# Altium footprint library 51 MCU Development board.PcbLib: 9 footprints
Each footprint in its own frame and in the unit in brackets; x right, y up, seen from the top. Pads: shape width x height; smd on the part's side, far side on the other; paste and mask are expansions set on the pad; w line width, h text height; cw(c..) or ccw(c..) is an arc to the next point about the centre after c.
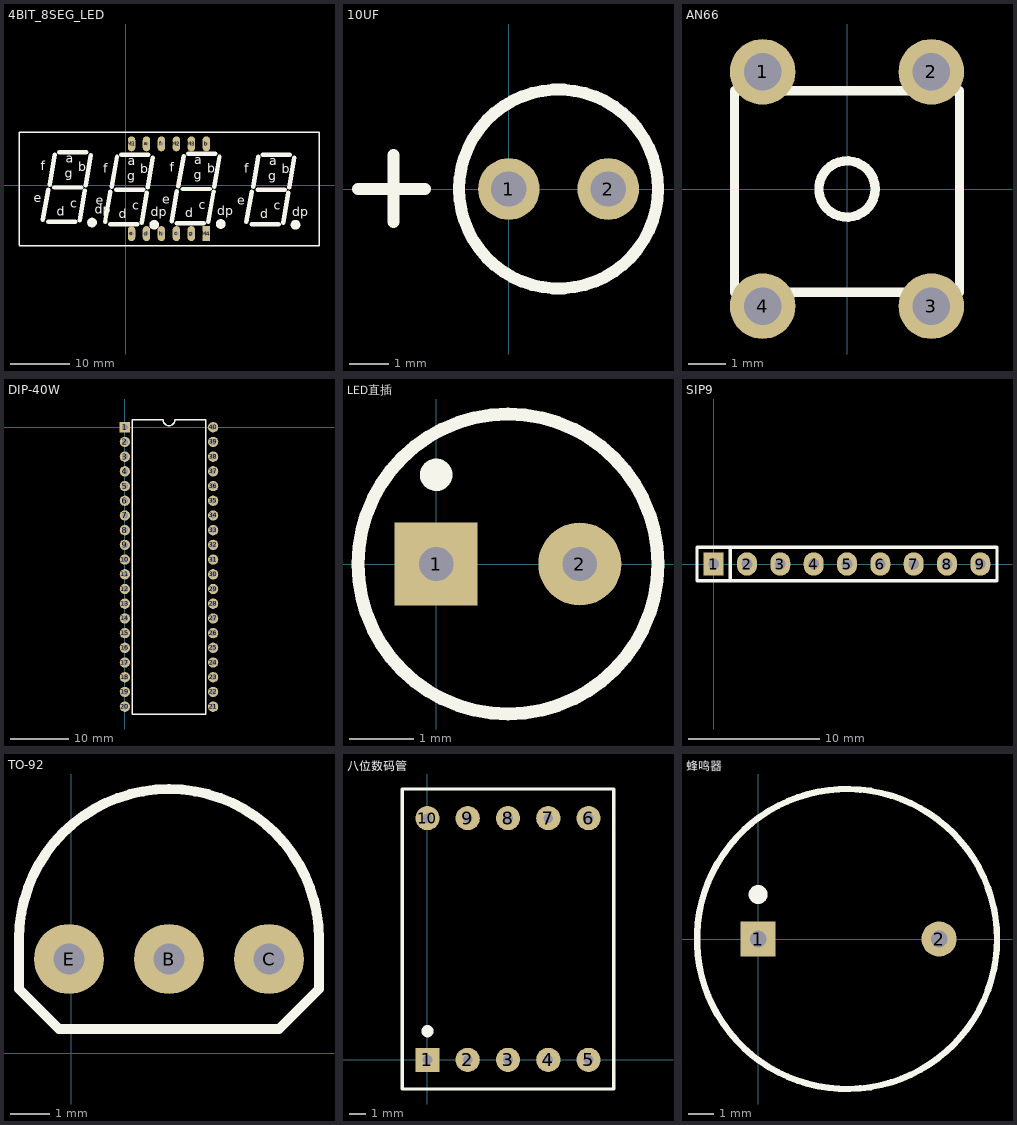
[diagram p0: the footprints below, top view; thin cyan lines are the x and y axes]

## 4BIT_8SEG_LED [mil]
pads (12):
  oval 50x100 hole 25: a(137,277) b(537,277) c(337,-323) d(137,-323) e(37,-323) f(237,277) g(437,-323) h(237,-323) M1(37,277) M2(337,277) M3(437,277)
  rect 50x100 hole 25: M4(537,-323)
Top Overlay:
  circle w40: c188,-264 r12
  circle w40: c-227,-249 r12
  circle w40: c633,-259 r12
  circle w40: c1133,-264 r12
  lines w10: -715,-405 1290,-405 ; -715,-401 -715,355 1290,355 1290,-404
  lines w30: -555,-230 -520,-30 ; -520,-245 -340,-245 ; -510,5 -475,205 ; -480,-15 -300,-15 ; -445,220 -265,220 ; -310,-235 -275,-35 ; -270,0 -235,200 ; -140,-245 -105,-45 ; -105,-260 75,-260 ; -95,-10 -60,190 ; -65,-30 115,-30 ; -30,205 150,205 ; 105,-250 140,-50 ; 145,-15 180,185 ; 305,-240 340,-40 ; 340,-255 520,-255 ; 350,-5 385,195 ; 380,-25 560,-25 ; 415,210 595,210 ; 550,-245 585,-45 ; 590,-10 625,190 ; 805,-245 840,-45 ; 840,-260 1020,-260 ; 850,-10 885,190 ; 880,-30 1060,-30 ; 915,205 1095,205 ; 1050,-250 1085,-50 ; 1090,-15 1125,185
  text "c" at 42,-165 h60
  text "dp" at 166,-207 h60
  text "e" at -203,-130 h60
  text "d" at -48,-220 h60
  text "a" at 12,135 h60
  text "g" at 7,35 h60
  text "b" at 97,80 h60
  text "f" at -153,85 h60
  text "c" at -373,-150 h60
  text "dp" at -209,-192 h60
  text "e" at -618,-115 h60
  text "d" at -463,-205 h60
  text "a" at -403,150 h60
  text "g" at -408,50 h60
  text "b" at -318,95 h60
  text "f" at -568,100 h60
  text "c" at 487,-160 h60
  text "dp" at 611,-202 h60
  text "e" at 242,-125 h60
  text "d" at 397,-215 h60
  text "a" at 457,140 h60
  text "g" at 452,40 h60
  text "b" at 542,85 h60
  text "f" at 292,90 h60
  text "c" at 987,-165 h60
  text "dp" at 1111,-207 h60
  text "e" at 742,-130 h60
  text "d" at 897,-220 h60
  text "a" at 957,135 h60
  text "g" at 952,35 h60
  text "b" at 1042,80 h60
  text "f" at 792,85 h60

## 10UF [mil]
pads (2):
  round 62 hole 35.43: 1(0,0) 2(100,0)
Top Overlay:
  circle w12: c50,0 r100
  lines w12: -151.69,0 -84.17,0 ; -115.87,-33.27 -115.87,34.25

## AN66 [mil]
pads (4):
  round 70 hole 40: 1(-90,125) 2(90,125) 3(90,-125) 4(-90,-125)
Top Overlay:
  circle w10: c0,0 r30
  lines w10: -120,-110 120,-110 120,105 -120,105 -120,-110

## DIP-40W [mil]
pads (40):
  rect 70x70 hole 40: 1(0,0)
  round 70 hole 40: 2(0,-100) 3(0,-200) 4(0,-300) 5(0,-400) 6(0,-500) 7(0,-600) 8(0,-700) 9(0,-800) 10(0,-900) 11(0,-1000) 12(0,-1100) 13(0,-1200) 14(0,-1300) 15(0,-1400) 16(0,-1500) 17(0,-1600) 18(0,-1700) 19(0,-1800) 20(0,-1900) 21(600,-1900) 22(600,-1800) 23(600,-1700) 24(600,-1600) 25(600,-1500) 26(600,-1400) 27(600,-1300) 28(600,-1200) 29(600,-1100) 30(600,-1000) 31(600,-900) 32(600,-800) 33(600,-700) 34(600,-600) 35(600,-500) 36(600,-400) 37(600,-300) 38(600,-200) 39(600,-100) 40(600,0)
Top Overlay:
  lines w10: 50,-1950 50,50 260,50 ccw(c300,50) 340,50 550,50 550,-1950 50,-1950

## LED直插 [mm]
pads (2):
  rect 1.3x1.3 hole 0.54: 1(0,0)
  round 1.3 hole 0.54: 2(2.25,0)
Top Overlay:
  circle w0.254: c0,1.397 r0.127
  circle w0.203: c1.125,0 r2.35

## SIP9 [mil]
pads (9):
  rect 60x70 hole 32: 1(0,0)
  oval 60x70 hole 32: 2(100,0) 3(200,0) 4(300,0) 5(400,0) 6(500,0) 7(600,0) 8(700,0) 9(800,0)
Top Overlay:
  lines w10: 50,-50 50,50 ; -50,-50 850,-50 850,50 -50,50 -50,-50

## TO-92 [mil]
pads (3):
  round 70 hole 31.5: B(98,94) C(198,94) E(-2,94)
Top Overlay:
  lines w10: -52,64 -12,24 208,24 248,64 248,114 ccw(c98,114) -52,114 -52,64

## 八位数码管 [mm]
pads (10):
  rect 1.5x1.5 hole 0.6: 1(0,0)
  round 1.5 hole 0.6: 2(2.5,0) 3(5,0) 4(7.5,0) 5(10,0) 6(10,15) 7(7.5,15) 8(5,15) 9(2.5,15) 10(0,15)
Top Overlay:
  circle w0.4: c0,1.778 r0.18
  lines w0.203: -1.56,-1.81 11.56,-1.81 11.56,16.81 -1.56,16.81 -1.56,-1.81

## 蜂鸣器 [mm]
pads (2):
  rect 1.4x1.4 hole 0.66: 1(0,0)
  round 1.4 hole 0.66: 2(7.239,0)
Top Overlay:
  circle w0.254: c3.556,0 r6
  circle w0.4: c0,1.778 r0.18